# EAGLE library part AT45DB081D (library SparkFun)
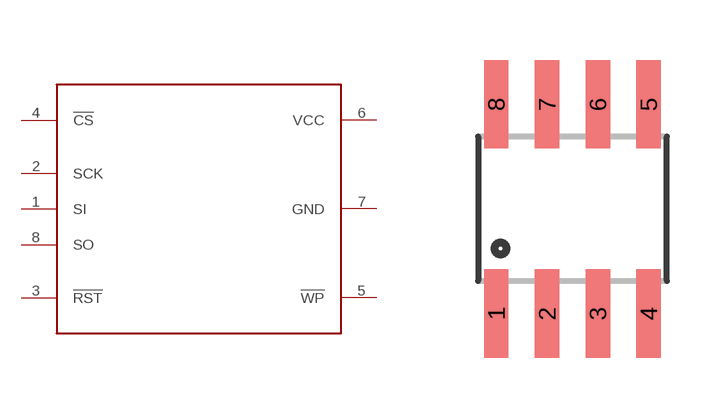
[diagram p390: symbol with the pads of SOIC8; footprint SOIC8]

Designator prefix -

## AT45DB081D  [SOIC8]
1  SI
2  SCK
3  !RST
4  !CS
5  !WP
6  VCC
7  GND
8  SO

## Footprint SOIC8 (pad centres in mm)
smd 0.61 x 2.21: 1 -1.905,-2.616; 2 -0.635,-2.616; 3 0.635,-2.616; 4 1.905,-2.616; 5 1.905,2.616; 6 0.635,2.616; 7 -0.635,2.616; 8 -1.905,2.616